# Altium footprint library 贴片电感.PcbLib: 14 footprints
Each footprint in its own frame and in the unit in brackets; x right, y up, seen from the top. Pads: shape width x height; smd on the part's side, far side on the other; paste and mask are expansions set on the pad; w line width, h text height; cw(c..) or ccw(c..) is an arc to the next point about the centre after c.
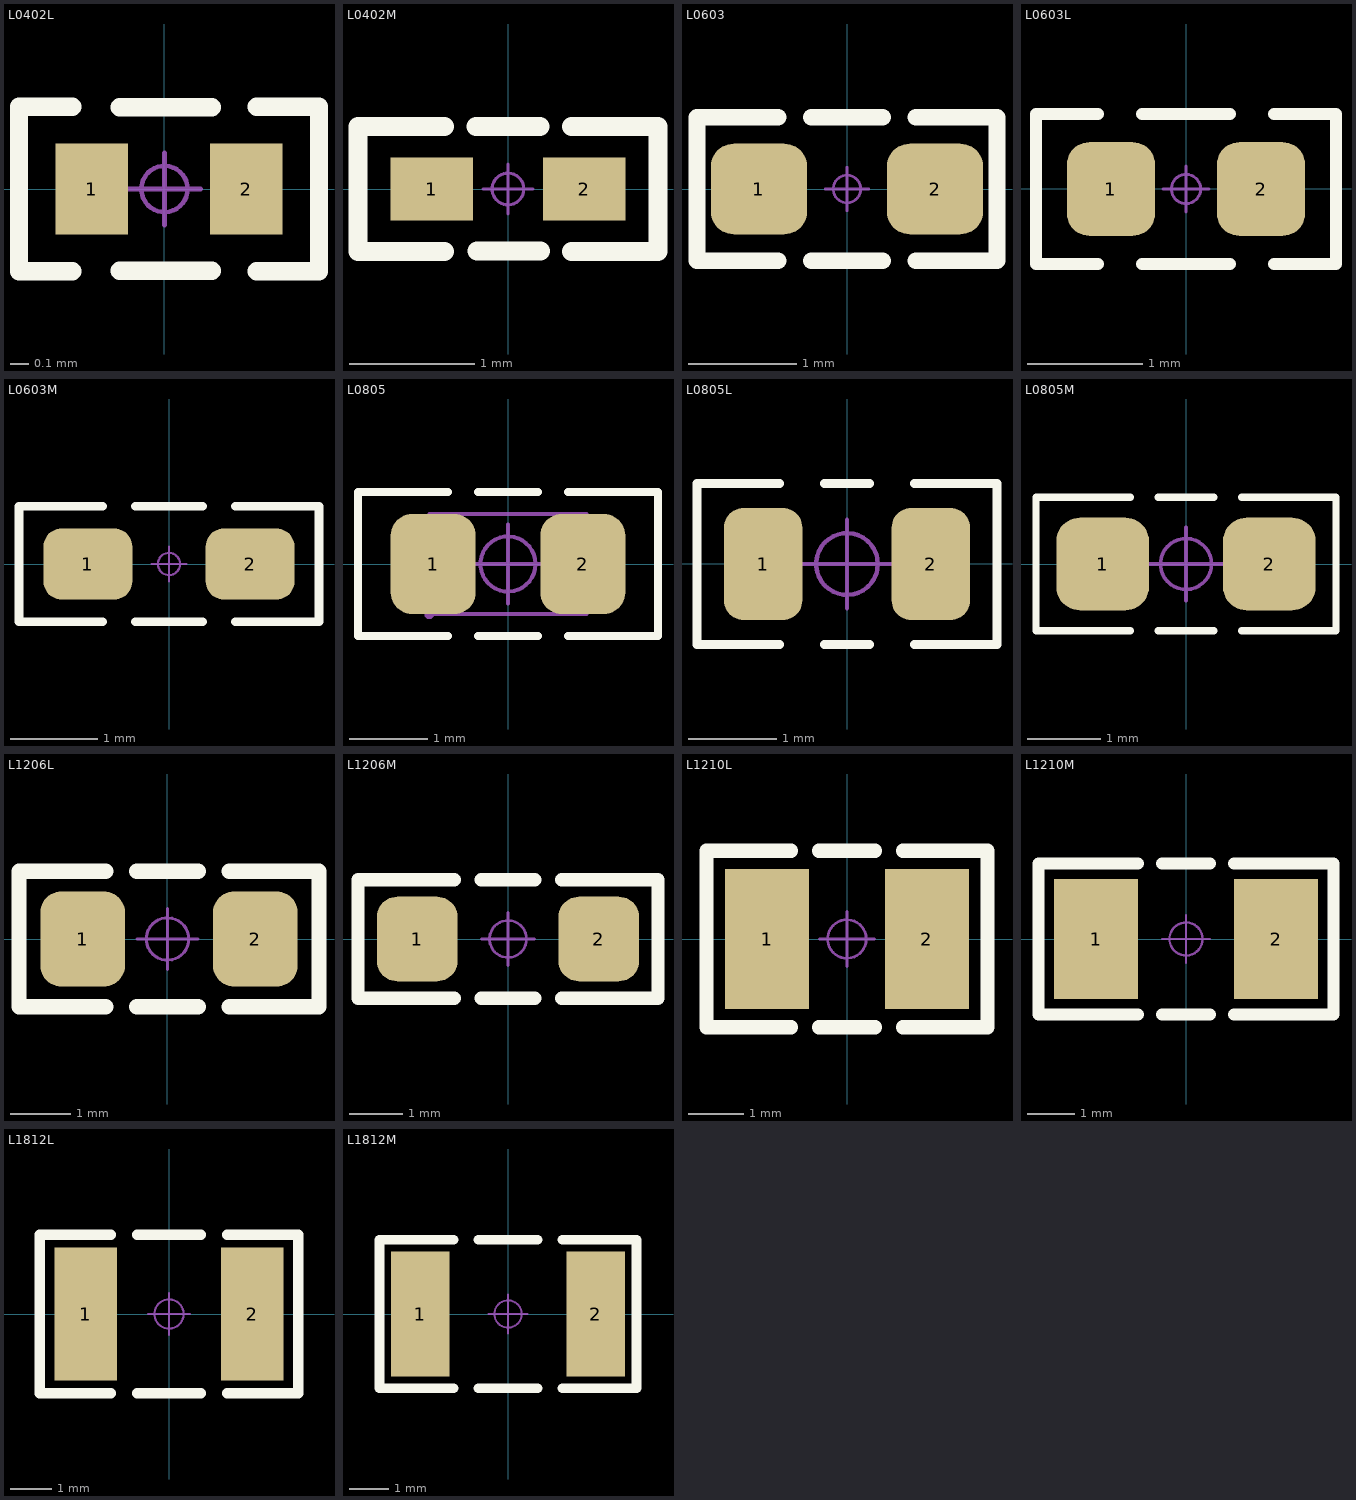
[diagram p0: the footprints below, top view; thin cyan lines are the x and y axes]

## L0402L [mm]
pads (2):
  rect 0.4x0.5 smd: 1(-0.4,0) 2(0.45,0)
Top Overlay:
  lines w0.102: -0.8,-0.452 -0.508,-0.452 ; -0.8,-0.45 -0.8,0.45 ; -0.8,0.452 -0.508,0.452 ; -0.247,-0.45 0.261,-0.45 ; -0.247,0.45 0.261,0.45 ; 0.508,-0.452 0.85,-0.452 ; 0.508,0.452 0.85,0.452 ; 0.85,-0.45 0.85,0.45
Mechanical 15:
  circle w0.025: c0,0 r0.127
  lines w0.025: -0.2,0 0.2,0 ; 0,-0.2 0,0.2
3D body "0402.STEP": height 0.5, standoff 0, extent -0.5,-0.25 0.5,0.25

## L0402M [mil] "1/16W贴片电阻"
pads (2):
  rect 26x20 smd: 1(-24,0) 2(24,0)
Top Overlay:
  lines w6: -20,-19.68 -47.24,-19.68 -47.24,19.68 -20,19.68 ; -10,19.68 10,19.68 ; -9.72,-19.6 10.28,-19.6 ; 20,-19.68 47.24,-19.68 47.24,19.68 20,19.68
Mechanical 15:
  circle w1: c0,0 r5
  lines w1: -7.87,0 7.87,0 ; 0,-7.87 0,7.87
3D body "0402.STEP": height 19.68, standoff -0.11, extent -19.69,-9.84 19.69,9.84

## L0603 [mil]
pads (2):
  rrect50% 35x33 smd: 1(-32,0) 2(32,0)
Top Overlay:
  lines w6: -25,-26.01 -54.53,-26.01 -54.53,26.01 -25,26.01 ; -13,-26.01 13,-26.01 ; -13,26.01 13,26.01 ; 25,-26.01 54.53,-26.01 54.53,26.01 25,26.01
Mechanical 15:
  circle w1: c0,0 r5
  lines w1: -7.87,0 7.87,0 ; 0,-7.87 0,7.87
3D body "0603.STEP": height 31.5, standoff -0.11, extent -31.5,-15.75 31.5,15.75

## L0603L [mil]
pads (2):
  rrect50% 30x32 smd: 1(-25.59,0) 2(25.59,0)
Top Overlay:
  lines w4: -30,-25.59 -51.18,-25.59 -51.18,25.59 -30,25.59 ; -15,-25.59 15,-25.59 ; -15,25.59 15,25.59 ; 30,-25.59 51.18,-25.59 51.18,25.59 30,25.59
Mechanical 15:
  circle w1: c0,0 r5
  lines w1: -7.87,0 7.87,0 ; 0,-7.87 0,7.87
3D body "0603.STEP": height 31.5, standoff -0.11, extent -31.5,-15.75 31.5,15.75

## L0603M [mil]
pads (2):
  rrect50% 40x32 smd: 1(-36.5,0) 2(36.5,0)
Top Overlay:
  lines w4: -30,-26 -67.5,-26 -67.5,26 -30,26 ; -15,-26 15,-26 ; -15,26 15,26 ; 30,-26 67.5,-26 67.5,26 30,26
Mechanical 15:
  circle w1: c0,0 r5
  lines w1: -7.87,0 7.87,0 ; 0,-7.87 0,7.87
3D body "0603.STEP": height 31.5, standoff -0.11, extent -31.5,-15.75 31.5,15.75

## L0805 [mil]
pads (2):
  rrect50% 42.5x50 smd: 1(-37.4,0) 2(37.4,0)
Top Overlay:
  lines w4: -30,-36 -75,-36 -75,36 -30,36 ; -15,-36 15,-36 ; -15,36 15,36 ; 30,-36 75,-36 75,36 30,36
Mechanical 15:
  circle w1.97: c0,0 r13.78
  circle w1.97: c0,0 r13.78
  region: -39.37,-25.1 -39.37,25.1 -23.62,25.1 -23.62,-25.1
  region: 39.37,-25.1 39.37,25.1 23.62,25.1 23.62,-25.1
  region: -37.01,-25.1 -37.05,-24.15 -38.42,-22.85 -40.31,-22.85 -41.68,-24.16 -41.73,-25.1 -41.68,-26.05 -40.31,-27.35 -38.42,-27.35 -37.05,-26.05
  lines w1.97: -19.68,0 19.68,0 -19.68,0 ; 0,-19.68 0,19.68 0,-19.68
  lines w2: -39.37,-25.1 -39.37,25.1 39.37,25.1 39.37,-25.1 -39.37,-25.1
3D body "0805.STEP": height 35.43, standoff -0.11, extent -39.37,-23.62 39.37,23.62

## L0805L [mil]
pads (2):
  rrect50% 35x50 smd paste-1: 1(-37.4,0) 2(37.4,0)
Top Overlay:
  lines w4: -30,-36 -66.93,-36 -66.93,36 -30,36 ; -10,-36 10,-36 ; -10,36 10,36 ; 30,-36 66.93,-36 66.93,36 30,36
Mechanical 15:
  circle w1.97: c0,0 r13.78
  lines w1.97: -19.68,0 19.68,0 ; 0,-19.68 0,19.68
3D body "0805.STEP": height 35.43, standoff -0.11, extent -39.37,-23.62 39.37,23.62

## L0805M [mil]
pads (2):
  rrect50% 50x50 smd paste-1: 1(-45,0) 2(45,0)
Top Overlay:
  lines w4: -30,-36 -81,-36 -81,36 -30,36 ; -15,-36 15,-36 ; -15,36 15,36 ; 30,-36 81,-36 81,36 30,36
Mechanical 15:
  circle w1.97: c0,0 r13.78
  lines w1.97: -19.68,0 19.68,0 ; 0,-19.68 0,19.68
3D body "0805.STEP": height 35.43, standoff -0.11, extent -39.37,-23.62 39.37,23.62

## L1206L [mil]
pads (2):
  rrect50% 55x62 smd paste-2: 1(-55.12,0) 2(57.09,0)
Top Overlay:
  lines w10: -40,-44 -96.46,-44 -96.46,44 -40,44 ; -20,-44 20,-44 ; -20,44 20,44 ; 40,-44 98.43,-44 98.43,44 40,44
Mechanical 15:
  circle w1.97: c0,0 r13.78
  lines w1.97: -19.68,0 19.68,0 ; 0,-19.68 0,19.68
3D body "1206.STEP": height 35.43, standoff -0.19, extent -62.99,-31.5 62.99,31.5

## L1206M [mil]
pads (2):
  rrect50% 60x62.99 smd paste-1: 1(-67.5,0) 2(67.5,0)
Top Overlay:
  lines w10: -40,-44 -111.5,-44 -111.5,44 -40,44 ; -20,-44 20,-44 ; -20,44 20,44 ; 40,-44 111.5,-44 111.5,44 40,44
Mechanical 15:
  circle w1.97: c0,0 r13.78
  lines w1.97: -19.68,0 19.68,0 ; 0,-19.68 0,19.68
3D body "1206.STEP": height 35.43, standoff -0.19, extent -62.99,-31.5 62.99,31.5

## L1210L [mil]
pads (2):
  rect 60x100 smd: 1(-57.09,0) 2(57.09,0)
Top Overlay:
  lines w10: -40,-63 -100.39,-63 -100.39,63 -40,63 ; -20,-63 20,-63 ; -20,63 20,63 ; 40,-63 100.39,-63 100.39,63 40,63
Mechanical 15:
  circle w1.97: c0,0 r13.78
  lines w1.97: -19.68,0 19.68,0 ; 0,-19.68 0,19.68
3D body "1210.STEP": height 51.18, standoff -0.19, extent -62.99,-49.21 62.99,49.21

## L1210M [mil]
pads (2):
  rect 70x100 smd: 1(-75,0) 2(75,0)
Top Overlay:
  lines w10: -40,-63 -123,-63 -123,63 -40,63 ; -20,-63 20,-63 ; -20,63 20,63 ; 40,-63 123,-63 123,63 40,63
Mechanical 15:
  circle w1.97: c0,0 r13.78
  lines w1.97: -19.68,0 19.68,0 ; 0,-19.68 0,19.68
3D body "1210.STEP": height 51.18, standoff -0.19, extent -62.99,-49.21 62.99,49.21

## L1812L [mm]
pads (2):
  rect 1.5x3.2 smd: 1(-2,0) 2(2,0)
Top Overlay:
  lines w0.254: -1.397,-1.905 -3.1,-1.905 -3.1,1.905 -1.397,1.905 ; -0.762,-1.905 0.762,-1.905 ; -0.762,1.905 0.762,1.905 ; 1.397,-1.905 3.1,-1.905 3.1,1.905 1.397,1.905
Mechanical 15:
  circle w0.05: c0,0 r0.35
  lines w0.05: -0.5,0 0.5,0 ; 0,-0.5 0,0.5
3D body "1812.STEP": height 1.5, standoff 0, extent -2.25,-1.6 2.25,1.6

## L1812M [mm] "1/2W贴片电阻"
pads (2):
  rect 1.5x3.2 smd: 1(-2.25,0) 2(2.25,0)
Top Overlay:
  lines w0.254: -1.397,-1.905 -3.302,-1.905 -3.302,1.905 -1.397,1.905 ; -0.762,-1.905 0.762,-1.905 ; -0.762,1.905 0.762,1.905 ; 1.397,-1.905 3.302,-1.905 3.302,-0.508 3.302,1.905 1.397,1.905
Mechanical 15:
  circle w0.05: c0,0 r0.35
  lines w0.05: -0.5,0 0.5,0 ; 0,-0.5 0,0.5
3D body "1812.STEP": height 1.5, standoff 0, extent -2.25,-1.6 2.25,1.6